# Altium footprint library con-ptr500.PCBLIB: 34 footprints (part 3 of 3)
Each footprint in its own frame and in the unit in brackets; x right, y up, seen from the top. Pads: shape width x height; smd on the part's side, far side on the other; paste and mask are expansions set on the pad; w line width, h text height; cw(c..) or ccw(c..) is an arc to the next point about the centre after c.
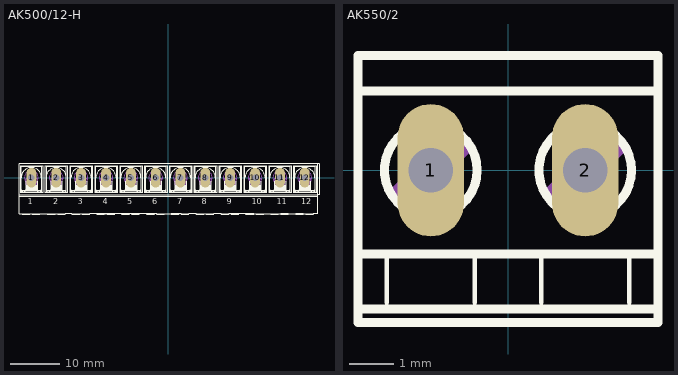
[diagram p2: the footprints below, top view; thin cyan lines are the x and y axes]

## AK500/12-H [mil]
pads (12):
  oval 78x156 hole 52: 1(-1084,0) 2(-887,0) 3(-690,0) 4(-492,0) 5(-295,0) 6(-98,0) 7(98,0) 8(295,0) 9(492,0) 10(690,0) 11(887,0) 12(1084,0)
Top Overlay:
  drawing of 338 lines, arcs and shapes, not listed
  text "1" at -1111,-225 h77.5
  text "2" at -911,-225 h77.5
  text "3" at -717,-225 h77.5
  text "4" at -519,-225 h77.5
  text "5" at -322,-225 h77.5
  text "6" at -125,-225 h77.5
  text "7" at 71,-225 h77.5
  text "8" at 268,-225 h77.5
  text "9" at 465,-225 h77.5
  text "10" at 663,-225 h77.5
  text "11" at 860,-225 h77.5
  text "12" at 1057,-225 h77.5
Mechanical 16:
  circle w6: c-1084,0 r55
  circle w6: c-887,0 r55
  circle w6: c-690,0 r55
  circle w6: c-492,0 r55
  circle w6: c-295,0 r55
  circle w6: c-98,0 r55
  circle w6: c98,0 r55
  circle w6: c295,0 r55
  circle w6: c492,0 r55
  circle w6: c690,0 r55
  circle w6: c887,0 r55
  circle w6: c1084,0 r55
  rectangle: -1129,-60 -1039,-30
  rectangle: -932,-60 -842,-30
  rectangle: -735,-60 -645,-30
  rectangle: -537,-60 -447,-30
  rectangle: -340,-60 -250,-30
  rectangle: -143,-60 -53,-30
  rectangle: 53,-60 143,-30
  rectangle: 250,-60 340,-30
  rectangle: 447,-60 537,-30
  rectangle: 645,-60 735,-30
  rectangle: 842,-60 932,-30
  rectangle: 1039,-60 1129,-30
  lines w6: -1129,-30 -1129,-5 -1039,-5 -1039,-30 -1129,-30 ; -932,-30 -932,-5 -842,-5 -842,-30 -932,-30 ; -735,-30 -735,-5 -645,-5 -645,-30 -735,-30 ; -537,-30 -537,-5 -447,-5 -447,-30 -537,-30 ; -340,-30 -340,-5 -250,-5 -250,-30 -340,-30 ; -143,-30 -143,-5 -53,-5 -53,-30 -143,-30 ; 53,-30 53,-5 143,-5 143,-30 53,-30 ; 250,-30 250,-5 340,-5 340,-30 250,-30 ; 447,-30 447,-5 537,-5 537,-30 447,-30 ; 645,-30 645,-5 735,-5 735,-30 645,-30 ; 842,-30 842,-5 932,-5 932,-30 842,-30 ; 1039,-30 1039,-5 1129,-5 1129,-30 1039,-30

## AK550/2 [mm]
pads (2):
  oval 1.5x3 hole 1: 1(-1.75,0) 2(1.75,0)
Top Overlay:
  circle w0.203: c1.75,0 r1.05
  circle w0.203: c-1.75,0 r1.05
  lines w0.102: -2.75,-3 -2.75,-2 ; -0.75,-3 -0.75,-2 ; 0.75,-3 0.75,-2 ; 2.75,-3 2.75,-2
  lines w0.203: -3.3,-3.15 3.3,-3.15 ; -3.3,-1.9 3.3,-1.9 ; -3.3,1.8 3.35,1.8 ; -3.4,-3.45 3.4,-3.45 3.4,2.6 -3.4,2.6 -3.4,-3.45
Mechanical 16:
  lines w0.152: -2.622,-0.491 -1.259,0.872 -0.878,0.491 -2.241,-0.872 -2.622,-0.491 ; 0.878,-0.491 2.241,0.872 2.622,0.491 1.259,-0.872 0.878,-0.491
  lines w0.61: -2.241,-0.491 -1.259,0.491 ; 1.259,-0.491 2.241,0.491